# Altium footprint library u2.PcbLib: 1 footprints
Each footprint in its own frame and in the unit in brackets; x right, y up, seen from the top. Pads: shape width x height; smd on the part's side, far side on the other; paste and mask are expansions set on the pad; w line width, h text height; cw(c..) or ccw(c..) is an arc to the next point about the centre after c.
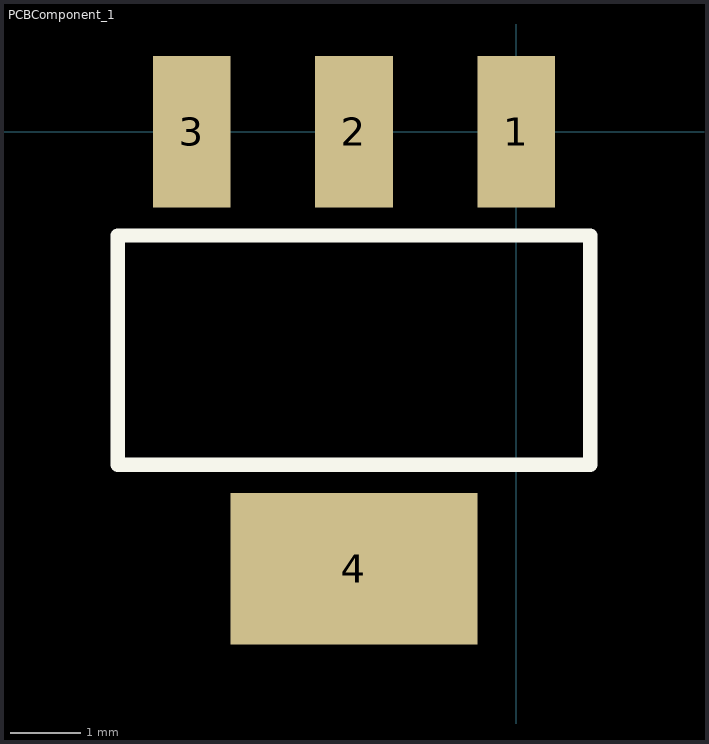
[diagram p0: the footprint, top view; thin cyan lines are the x and y axes]

## PCBComponent_1 [mm]
pads (4):
  rect 1.1x2.15 smd: 1(0,0) 2(-2.3,0) 3(-4.6,0)
  rect 3.5x2.15 smd: 4(-2.3,-6.2)
Top Overlay:
  lines w0.2: -5.65,-4.725 1.05,-4.725 1.05,-1.475 -5.65,-1.475 -5.65,-4.725